# EAGLE library part SI1132 (library Silicon Labs)
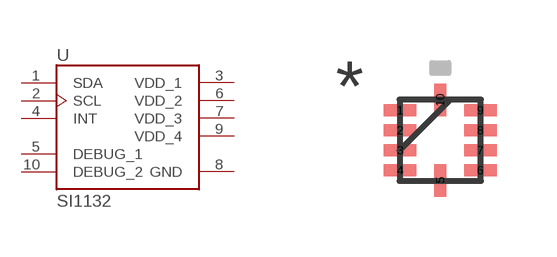
[diagram p11: symbol with the pads of QFN10M; footprint QFN10M]

Designator prefix U

## SI1132  [QFN10M]
1  SDA
2  SCL  in
3  VDD_1  pwr
4  INT
5  DEBUG_1  nc
6  VDD_2  pwr
7  VDD_3  pwr
8  GND  pwr
9  VDD_4  pwr
10  DEBUG_2  nc

## Footprint QFN10M (pad centres in mm)
smd 0.813 x 0.305: 1 -1.003,0.75; 2 -1.003,0.25; 3 -1.003,-0.25; 4 -1.003,-0.75; 6 1.003,-0.75; 7 1.003,-0.25; 8 1.003,0.25; 9 1.003,0.75
smd 0.305 x 0.813: 5 0,-1.003; 10 0,1.003